# Altium footprint library MUSB-B.PcbLib: 1 footprints
Each footprint in its own frame and in the unit in brackets; x right, y up, seen from the top. Pads: shape width x height; smd on the part's side, far side on the other; paste and mask are expansions set on the pad; w line width, h text height; cw(c..) or ccw(c..) is an arc to the next point about the centre after c.
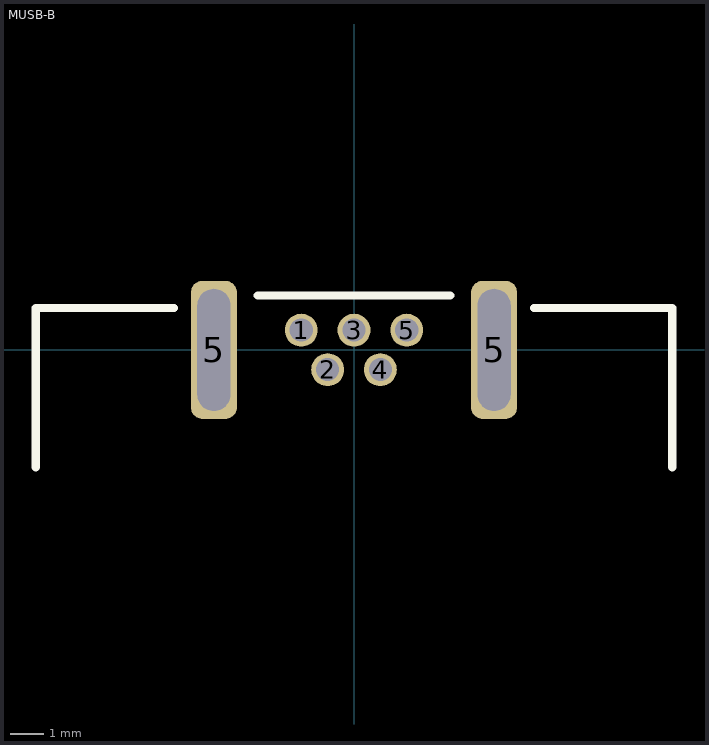
[diagram p0: the footprint, top view; thin cyan lines are the x and y axes]

## MUSB-B [mm]
pads (7):
  round 1 hole 0.7: 1(-1.6,0.6) 2(-0.8,-0.6) 3(0,0.6) 4(0.8,-0.6) 5(1.6,0.6)
  rrect50% 1.397x4.191 hole 1 slot 3.7 at 90 deg: 5(-4.25,0) 5(4.25,0)
TopOverlay:
  lines w0.254: -9.652,-3.556 -9.652,1.27 -5.461,1.27 ; -2.921,1.651 2.921,1.651 ; 5.461,1.27 9.652,1.27 9.652,-3.556
Mechanical4:
  text ".340" at 0,-0.3 h0.03
3D body: height 8.3, standoff -2.65, extent -10,-8.796 10,1.484